# Altium schematic symbol library EVM-3ESX50B14.SchLib: 1 symbol
Pins are listed as number, name and electrical type; pins without a type are passive.

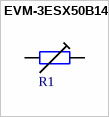
[diagram p0: symbol EVM-3ESX50B14]

## EVM-3ESX50B14
designator R1, comment 10k  (value not drawn)
Part Number: EVM-3ESX50B14; Power Rating: 100mW; FR_SN: Trim-05; Value: 10k; Resistor Case Style: -; Temperature Coefficient: -; Manufacturer Part Number: EVM-3ESX50B14; ComponentLink1URL: https://hr.mouser.com/datasheet/2/315/AOI0000C51-1289039.pdf; ComponentLink1Description: Datahseet; Supplier Part Number: 667-EVM-3ESX50B14
footprint RESDFN3_380X370X120L120X120
pins: 1, 2, 3